# Altium footprint library PR20204VBNN 4 Pin Male Header Pin 2.54mm.PcbLib: 1 footprints
Each footprint in its own frame and in the unit in brackets; x right, y up, seen from the top. Pads: shape width x height; smd on the part's side, far side on the other; paste and mask are expansions set on the pad; w line width, h text height; cw(c..) or ccw(c..) is an arc to the next point about the centre after c.
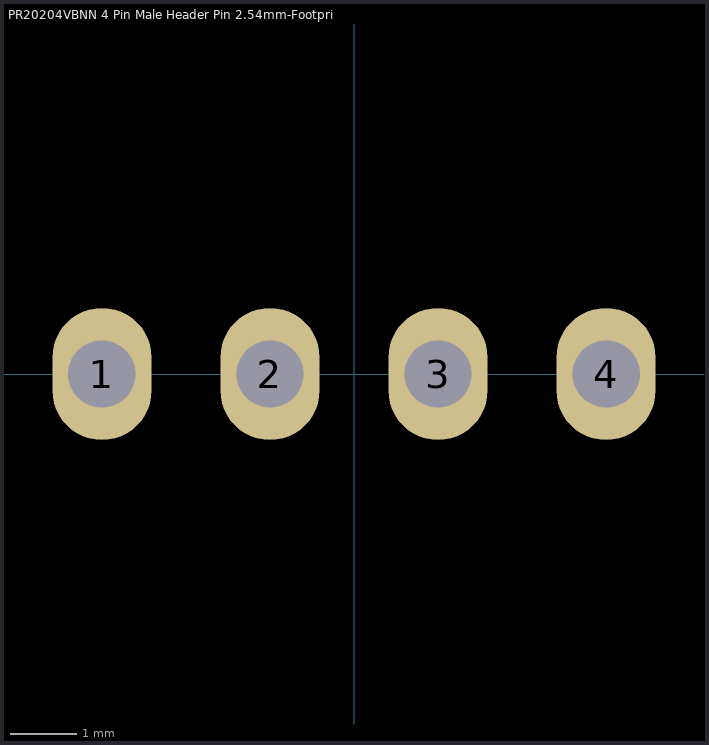
[diagram p0: the footprint, top view; thin cyan lines are the x and y axes]

## PR20204VBNN 4 Pin Male Header Pin 2.54mm-Footprint-1 [mm]
pads (4):
  oval 1.5x2 hole 1.02: 1(-3.81,0) 2(-1.27,0) 3(1.27,0) 4(3.81,0)
3D body "1x4_Male_Header.stp": height 2.8, standoff -9.9, extent -5.08,-1.27 5.08,1.27